# Altium schematic symbol library LY P47F-U2AB-36-4A5B.Schlib: 1 symbol
Pins are listed as number, name and electrical type; pins without a type are passive.

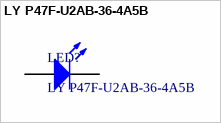
[diagram p0: symbol LY P47F-U2AB-36-4A5B]

## LY P47F-U2AB-36-4A5B
designator LED?
Yellow Led  reverse mount
pins: 1 A, 2 K